# EAGLE library part TC_2050_IDC_NL_TOP (library leaf)
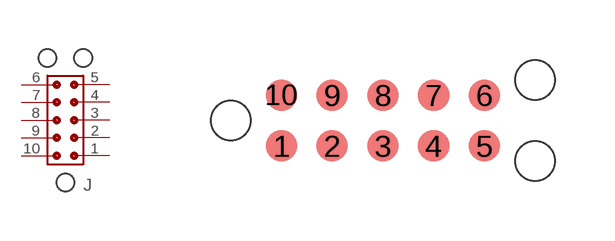
[diagram p1: symbol with the pads of TC_2050_IDC_NL_TOP; footprint TC_2050_IDC_NL_TOP]

Designator prefix J

## TC_2050_IDC_NL_TOP  [TC_2050_IDC_NL_TOP]
1  1
2  2
3  3
4  4
5  5
6  6
7  7
8  8
9  9
10  10

## Footprint TC_2050_IDC_NL_TOP (pad centres in mm)
smd 0.787 x 0.787: 1 1.27,-0.635; 2 2.54,-0.635; 3 3.81,-0.635; 4 5.08,-0.635; 5 6.35,-0.635; 6 6.35,0.635; 7 5.08,0.635; 8 3.81,0.635; 9 2.54,0.635; 10 1.27,0.635
hole 0.991 at 0,0
hole 0.991 at 7.62,1.016
hole 0.991 at 7.62,-1.016